# Altium footprint library BGA28N40P7X4_300X188X50N.PcbLib: 1 footprints
Each footprint in its own frame and in the unit in brackets; x right, y up, seen from the top. Pads: shape width x height; smd on the part's side, far side on the other; paste and mask are expansions set on the pad; w line width, h text height; cw(c..) or ccw(c..) is an arc to the next point about the centre after c.
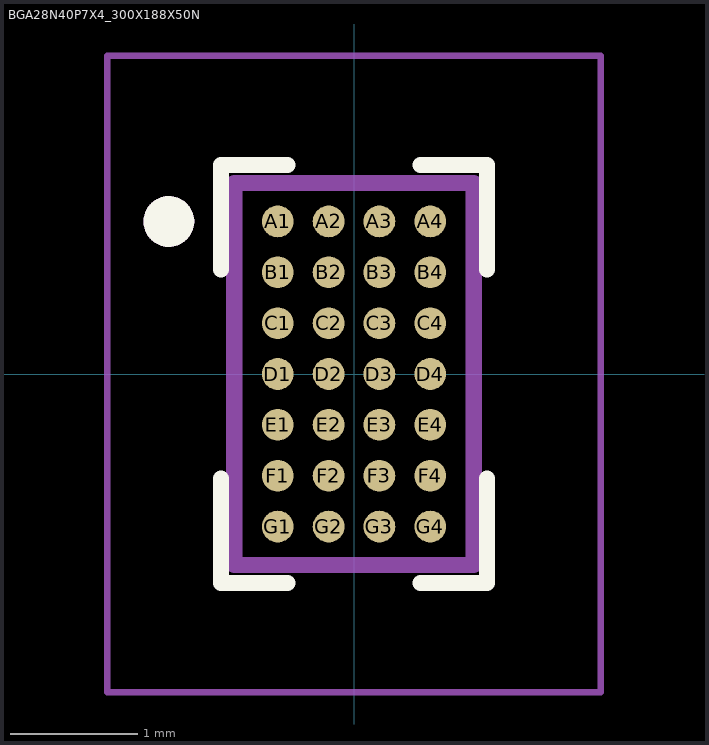
[diagram p0: the footprint, top view; thin cyan lines are the x and y axes]

## BGA28N40P7X4_300X188X50N [mm]
pads (28):
  round 0.25 smd: A1(-0.6,1.2) A2(-0.2,1.2) A3(0.2,1.2) A4(0.6,1.2) B1(-0.6,0.8) B2(-0.2,0.8) B3(0.2,0.8) B4(0.6,0.8) C1(-0.6,0.4) C2(-0.2,0.4) C3(0.2,0.4) C4(0.6,0.4) D1(-0.6,0) D2(-0.2,0) D3(0.2,0) D4(0.6,0) E1(-0.6,-0.4) E2(-0.2,-0.4) E3(0.2,-0.4) E4(0.6,-0.4) F1(-0.6,-0.8) F2(-0.2,-0.8) F3(0.2,-0.8) F4(0.6,-0.8) G1(-0.6,-1.2) G2(-0.2,-1.2) G3(0.2,-1.2) G4(0.6,-1.2)
Top Overlay:
  circle w0.2: c-1.456,1.2 r0.1
  lines w0.127: -1.045,-0.823 -1.045,-1.645 -0.523,-1.645 ; -1.045,0.823 -1.045,1.645 -0.523,1.645 ; 0.523,-1.645 1.045,-1.645 1.045,-0.823 ; 0.523,1.645 1.045,1.645 1.045,0.823
Mechanical 13:
  circle w0.2: c-1.456,1.2 r0.1
  lines w0.127: -0.941,-1.503 -0.941,1.503 0.941,1.503 0.941,-1.503 -0.941,-1.503
Mechanical 15:
  lines w0.05: -1.941,-2.503 -1.941,2.503 1.941,2.503 1.941,-2.503 -1.941,-2.503